# EAGLE library part 750510517 (library Midcom Inc - EAGLE Lib V2-0)
Package Style: EP7 Mounting: SMD Pins: 8 pins Bobbin: 070-5861 Best pinouts for production vary per application. Please contact Wurth Electronics Midcom, Inc. for assistance with your custom design. Website: Wurth Electronics Midcom <http://www.we-online.com/midcom> Contact us Wurth Electronics Midcom, Inc. 121 Airport Dr. Watertown, SD 57201 Phone: (605) 886-4385 Fax: (605) 886-4486 E-Mail: midcom@we-online.com
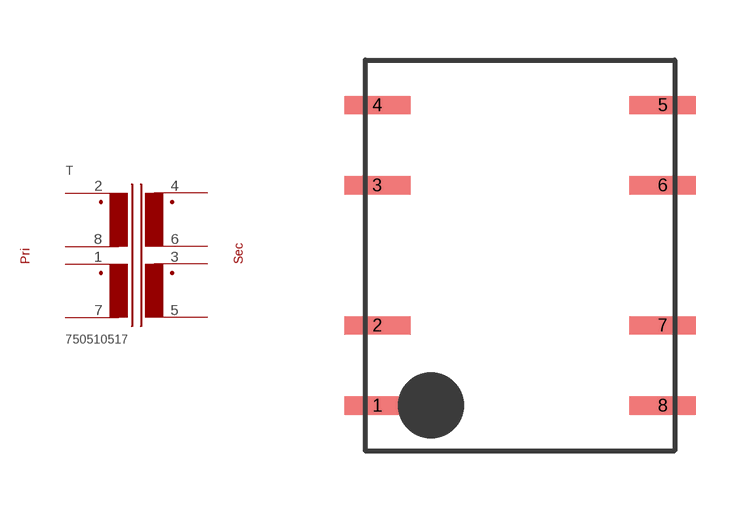
[diagram p93: symbol with the pads of EP7_SMD_H_8PIN_(5861); footprint EP7_SMD_H_8PIN_(5861)]

Designator prefix T

## 750510517  [EP7_SMD_H_8PIN_(5861)]
1  1  pas
2  2  pas
3  3  pas
4  4  pas
5  5  pas
6  6  pas
7  7  pas
8  8  pas

## Footprint EP7_SMD_H_8PIN_(5861) (pad centres in mm)
Package Style: EP7 Mounting: SMD Pins: 8 Bobbin: 070-5861
smd 1.651 x 0.457: 1 -3.569,-3.759; 2 -3.569,-1.753; 3 -3.569,1.753; 4 -3.569,3.759; 5 3.569,3.759; 6 3.569,1.753; 7 3.569,-1.753; 8 3.569,-3.759